# Altium footprint library Stm8_PCB.PcbLib: 13 footprints
Each footprint in its own frame and in the unit in brackets; x right, y up, seen from the top. Pads: shape width x height; smd on the part's side, far side on the other; paste and mask are expansions set on the pad; w line width, h text height; cw(c..) or ccw(c..) is an arc to the next point about the centre after c.
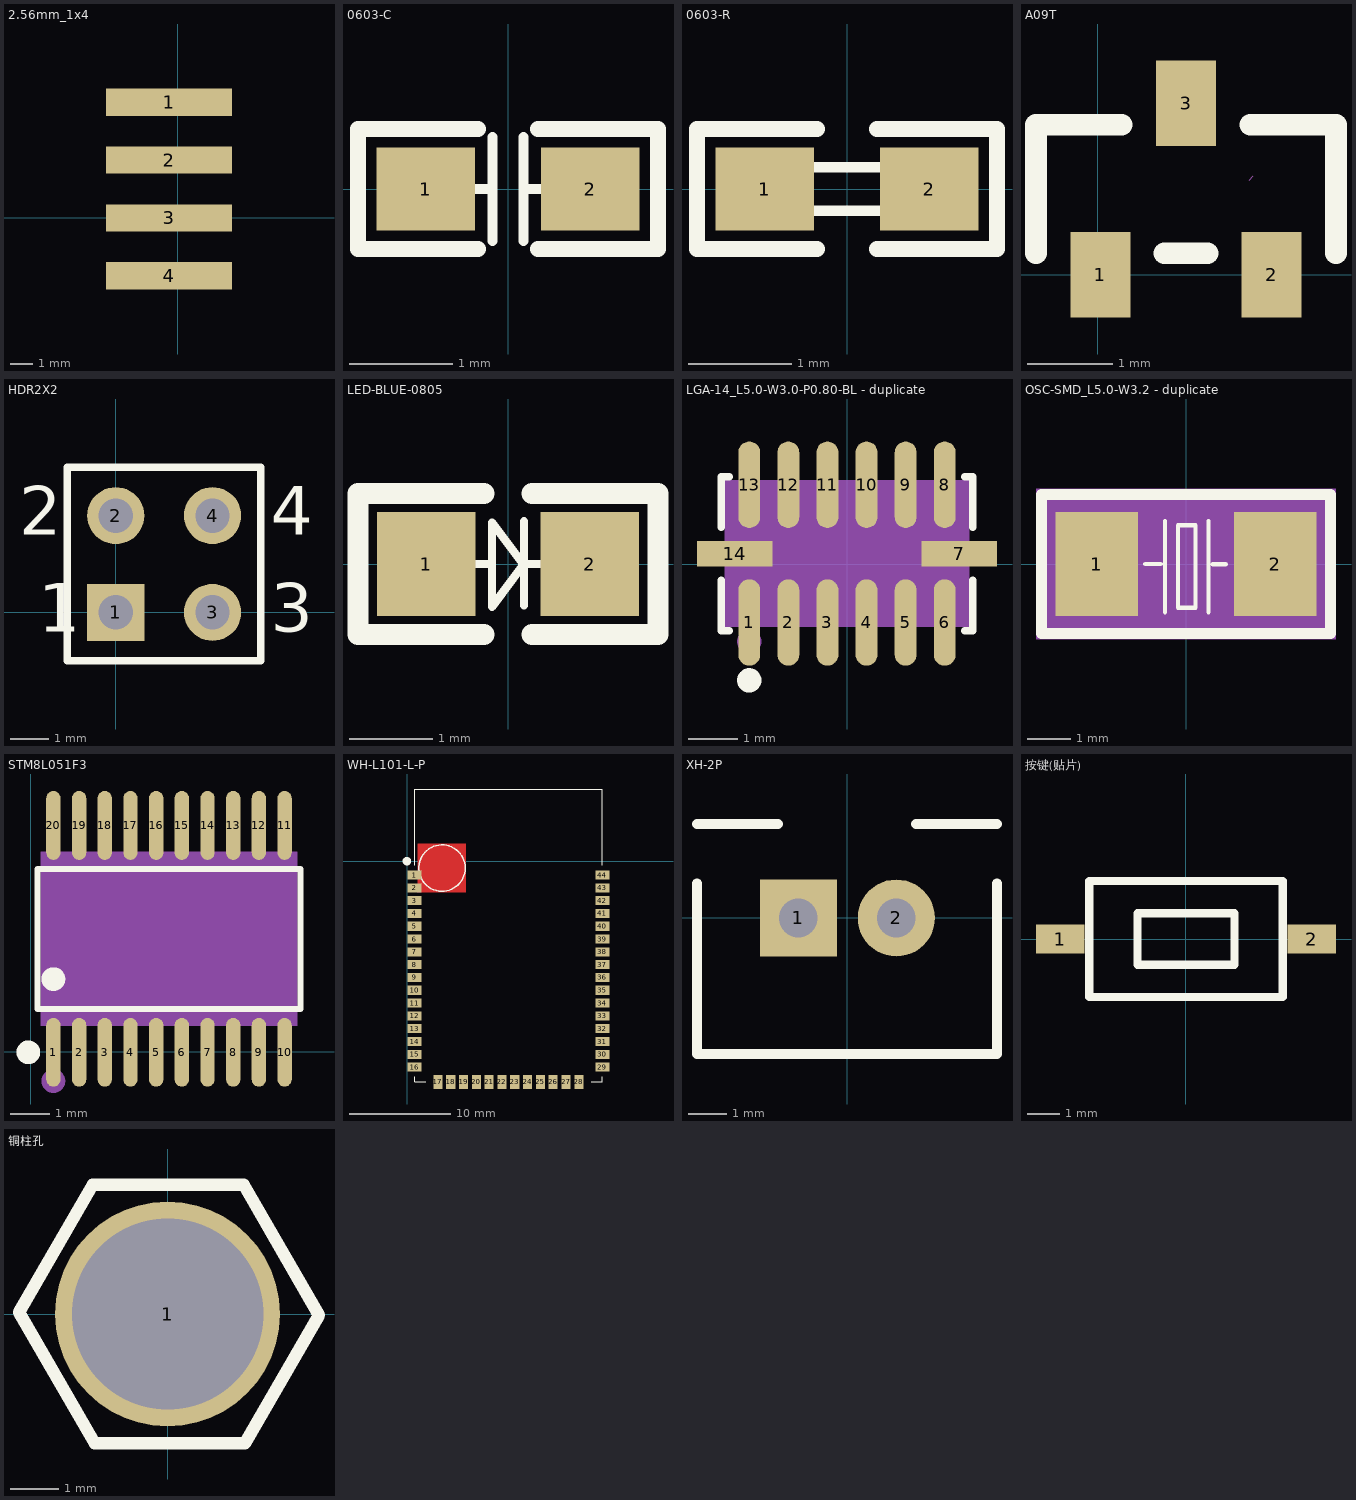
[diagram p0: the footprints below, top view; thin cyan lines are the x and y axes]

## 2.56mm_1x4 [mm]
pads (4):
  rect 5.54x1.2 smd: 1(-0.385,5.08) 2(-0.385,2.54) 3(-0.385,0) 4(-0.385,-2.54)

## 0603-C [mm]
pads (2):
  rect 0.953x0.8 smd: 1(-0.794,0) 2(0.794,0)
Top Overlay:
  lines w0.1: -0.794,0 -0.17,0 ; -0.15,-0.5 -0.15,0.5 ; 0.15,-0.5 0.15,0.5 ; 0.17,0 0.794,0
  lines w0.154: -0.29,-0.58 -1.45,-0.58 -1.45,0.58 -0.29,0.58 ; 0.29,-0.58 1.45,-0.58 1.45,0.58 0.29,0.58
3D body "SW3dPS-0603 SMD Capacitor.STEP": height 0.3, standoff 0, extent -0.8,-0.4 0.8,0.4

## 0603-R [mm]
pads (2):
  rect 0.953x0.8 smd: 1(-0.794,0) 2(0.794,0)
Top Overlay:
  lines w0.1: -0.794,0 -0.65,0 ; 0.65,0 0.794,0 ; -0.65,-0.21 -0.65,0.21 0.65,0.21 0.65,-0.21 -0.65,-0.21
  lines w0.154: -0.29,-0.58 -1.45,-0.58 -1.45,0.58 -0.29,0.58 ; 0.29,-0.58 1.45,-0.58 1.45,0.58 0.29,0.58
3D body "SW3dPS-0603 SMD Resistor.STEP": height 0.3, standoff 0, extent -0.8,-0.4 0.8,0.4

## A09T [mm]
pads (3):
  rect 0.7x1 smd: 1(0.032,0) 2(2.032,0) 3(1.032,2)
Top Overlay:
  lines w0.254: -0.718,0.25 -0.718,1.75 0.282,1.75 ; 0.782,0.25 1.282,0.25 ; 1.782,1.75 2.782,1.75 2.782,0.25
Mechanical 15:
  lines w0.003: 1.769,1.102 1.819,1.152

## HDR2X2 [mm] "Connector; Header; 2x2 Position"
pads (4):
  rect 1.5x1.5 hole 0.9: 1(0,0)
  round 1.5 hole 0.9: 2(0,2.54) 3(2.54,0) 4(2.54,2.54)
Top Overlay:
  lines w0.2: -1.27,-1.27 -1.27,3.81 3.81,3.81 3.81,-1.27 -1.27,-1.27
  text "1" at -2.032,-0.508 h1.27
  text "2" at -2.54,2.032 h1.27
  text "4" at 4.064,2.032 h1.27
  text "3" at 4.064,-0.508 h1.27

## LED-BLUE-0805 [mm]
pads (2):
  rect 1.185x1.25 smd: 1(-0.988,0) 2(0.988,0)
Top Overlay:
  lines w0.1: -0.988,0 -0.193,0 ; 0.193,-0.501 0.193,0.515 ; 0.193,0 0.988,0 ; -0.193,-0.515 0.188,-0.007 -0.193,0.501 -0.193,-0.515
  lines w0.254: -1.81,-0.852 -0.29,-0.852 ; -1.81,-0.848 -1.81,0.852 -0.29,0.852 ; 0.29,-0.852 1.81,-0.852 1.81,0.848 ; 0.29,0.852 1.81,0.852
3D body "LED-Blue-0805.STEP": height 1.1, standoff 0, extent -1.01,-0.625 1.01,0.625

## LGA-14_L5.0-W3.0-P0.80-BL - duplicate [mm]
pads (14):
  oval 0.448x1.769 smd: 1(-2,-1.197) 2(-1.2,-1.197) 3(-0.4,-1.197) 4(0.4,-1.197) 5(1.2,-1.197) 6(2,-1.197) 8(2,1.622) 9(1.2,1.622) 10(0.4,1.622) 11(-0.4,1.622) 12(-1.2,1.622) 13(-2,1.622)
  rect 1.545x0.522 smd: 7(2.298,0.213) 14(-2.298,0.213)
Top Overlay:
  circle w0.25: c-2,-2.382 r0.125
  lines w0.152: -2.576,-0.328 -2.576,-1.364 -2.414,-1.364 ; -2.576,0.753 -2.576,1.789 -2.414,1.789 ; 2.414,-1.364 2.576,-1.364 2.576,-0.328 ; 2.414,1.789 2.576,1.789 2.576,0.753
Mechanical 4:
  region: -2.5,-1.287 -2.5,1.713 2.5,1.713 2.5,-1.287
Mechanical 5:
  region: -1.55,-0.037 -1.55,0.463 -2.5,0.463 -2.5,-0.037
  region: -2.25,1.713 -2.25,0.763 -1.75,0.763 -1.75,1.713
  region: -1.45,1.713 -1.45,0.763 -0.95,0.763 -0.95,1.713
  region: -0.65,1.713 -0.65,0.763 -0.15,0.763 -0.15,1.713
  region: 0.15,1.713 0.15,0.763 0.65,0.763 0.65,1.713
  region: 0.95,1.713 0.95,0.763 1.45,0.763 1.45,1.713
  region: 1.75,1.713 1.75,0.763 2.25,0.763 2.25,1.713
  region: 1.55,-0.037 1.55,0.463 2.5,0.463 2.5,-0.037
  region: 1.75,-1.287 1.75,-0.337 2.25,-0.337 2.25,-1.287
  region: 0.95,-1.287 0.95,-0.337 1.45,-0.337 1.45,-1.287
  region: 0.15,-1.287 0.15,-0.337 0.65,-0.337 0.65,-1.287
  region: -0.65,-1.287 -0.65,-0.337 -0.15,-0.337 -0.15,-1.287
  region: -1.45,-1.287 -1.45,-0.337 -0.95,-0.337 -0.95,-1.287
  region: -2.25,-1.287 -2.25,-0.337 -1.75,-0.337 -1.75,-1.287
Mechanical 6:
  circle w0.06: c-2.5,-1.288 r0.03
Mechanical 15:
  circle w0.25: c-2,-1.588 r0.125

## OSC-SMD_L5.0-W3.2 - duplicate [mm]
pads (2):
  rect 1.9x2.4 smd: 1(-2.05,0) 2(2.05,0)
Top Overlay:
  lines w0.1: -0.94,0 -0.584,0 ; -0.483,-1.109 -0.483,0.991 ; 0.517,-1.109 0.517,0.991 ; 0.617,-0.009 0.917,-0.009 ; -0.183,-1.009 0.217,-1.009 0.217,0.89 -0.183,0.89 -0.183,-1.009
  lines w0.254: -3.325,-1.6 -3.325,-0.7 -3.325,0.7 -3.325,1.6 3.325,1.6 3.325,0.7 3.325,-0.7 3.325,-1.6 -3.325,-1.6
Mechanical 4:
  region: -3.452,1.727 3.452,1.727 3.452,-1.727 -3.452,-1.727
Mechanical 5:
  region: 1.1,1.2 3,1.2 3,-1.2 1.1,-1.2
  region: -3,1.2 -1.1,1.2 -1.1,-1.2 -3,-1.2

## STM8L051F3 [mil] "STM8L051F3"
pads (20):
  oval 14.33x68.58 smd: 1(22.64,-0.39) 2(48.23,-0.39) 3(73.82,-0.39) 4(99.41,-0.39) 5(125,-0.39) 6(150.59,-0.39) 7(176.18,-0.39) 8(201.77,-0.39) 9(227.36,-0.39) 10(252.95,-0.39) 11(252.95,225.67) 12(227.36,225.67) 13(201.77,225.67) 14(176.18,225.67) 15(150.59,225.67) 16(125,225.67) 17(99.41,225.67) 18(73.82,225.67) 19(48.23,225.67) 20(22.64,225.67)
Top Overlay:
  circle w11.81: c-2.34,-0.39 r5.91
  circle w11.81: c22.63,72.52 r5.91
  lines w6: 6.84,42.9 268.75,42.9 268.75,182.38 6.84,182.38 6.84,42.9
Mechanical 4:
  region: 9.84,26.03 9.84,199.25 265.75,199.25 265.75,26.03
Mechanical 5:
  drawing of 40 lines, arcs and shapes, not listed
Mechanical 15:
  circle w11.81: c22.63,-29.09 r5.91

## WH-L101-L-P [mm]
pads (44):
  rect 1.4x0.9 smd: 1(0.737,-1.349) 2(0.737,-2.619) 3(0.737,-3.889) 4(0.737,-5.159) 5(0.737,-6.429) 6(0.737,-7.699) 7(0.737,-8.969) 8(0.737,-10.239) 9(0.737,-11.509) 10(0.737,-12.779) 11(0.737,-14.049) 12(0.737,-15.319) 13(0.737,-16.589) 14(0.737,-17.859) 15(0.737,-19.129) 16(0.737,-20.399) 29(19.357,-20.399) 30(19.357,-19.129) 31(19.357,-17.859) 32(19.357,-16.589) 33(19.357,-15.319) 34(19.357,-14.049) 35(19.357,-12.779) 36(19.357,-11.509) 37(19.357,-10.239) 38(19.357,-8.969) 39(19.357,-7.699) 40(19.357,-6.429) 41(19.357,-5.159) 42(19.357,-3.889) 43(19.357,-2.619) 44(19.357,-1.349)
  rect 0.9x1.4 smd: 17(3.047,-21.869) 18(4.317,-21.869) 19(5.587,-21.869) 20(6.857,-21.869) 21(8.127,-21.869) 22(9.397,-21.869) 23(10.667,-21.869) 24(11.937,-21.869) 25(13.207,-21.869) 26(14.477,-21.869) 27(15.757,-21.869) 28(17.027,-21.869)
Top Layer:
  pour cut-out: 1.067,1.753 5.817,1.753 5.817,-3.073 1.067,-3.073
Top Overlay:
  circle w0.152: c3.457,-0.659 r2.3
  circle w0.762: c-0.025,0.025 r0.036
  lines w0.07: 0.737,-21.369 0.737,-21.869 1.857,-21.869 ; 0.737,-0.369 0.737,7.181 19.357,7.181 19.357,-0.369 ; 18.237,-21.869 19.357,-21.869 19.357,-21.369

## XH-2P [mm]
pads (2):
  rect 2x2 hole 1: 1(-1.27,0)
  round 2 hole 1: 2(1.27,0)
Top Overlay:
  lines w0.254: -3.9,0.9 -3.9,-3.53 3.88,-3.53 3.88,0.9 ; -3.9,2.44 -1.8,2.44 ; 1.78,2.44 3.88,2.44
3D body "Header-XH2.5-2.STEP": height 7, standoff -3.3, extent -3.75,-3.4 3.75,2.3

## 按键(贴片) [mm]
pads (2):
  rect 1.5x0.9 smd: 1(-3.9,0) 2(3.9,0)
Top Overlay:
  lines w0.254: -3,-1.8 -3,1.8 3,1.8 3,-1.8 -3,-1.8 ; -1.5,-0.8 -1.5,0.8 1.5,0.8 1.5,-0.8 -1.5,-0.8
3D body "User Library-Tact switch 1181_2.STEP": height 2.6, standoff 0, extent -4,-1.8 4,1.8

## 铜柱孔 [mm]
pads (1):
  round 4.7 hole 4: 1(0,0)
Top Overlay:
  lines w0.254: -3.103,0.037 -1.523,-2.7 1.619,-2.7 3.164,-0.023 1.592,2.7 -1.565,2.7 -3.103,0.037